# EAGLE library part IP4220CZ6 (library NXP)
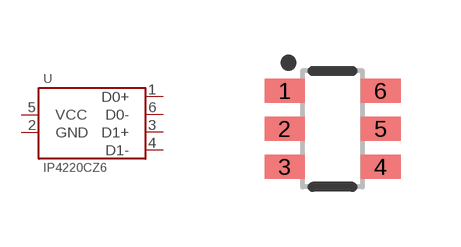
[diagram p0: symbol with the pads of SOT-6; footprint SOT-6]

Designator prefix U

## IP4220CZ6  [SOT-6]
1  D0+
2  GND
3  D1+
4  D1-
5  VCC
6  D0-

## Footprint SOT-6 (pad centres in mm)
smd 1 x 0.6: 1 -1.2,0.95; 2 -1.2,0; 3 -1.2,-0.95; 4 1.2,-0.95; 5 1.2,0; 6 1.2,0.95